# EAGLE library part ADS1112 (library TI)
16-bit Analog-to-Digital Converter with Input Multiplexer and Onboard Reference. 2-channel differential or 3-channel single ended.
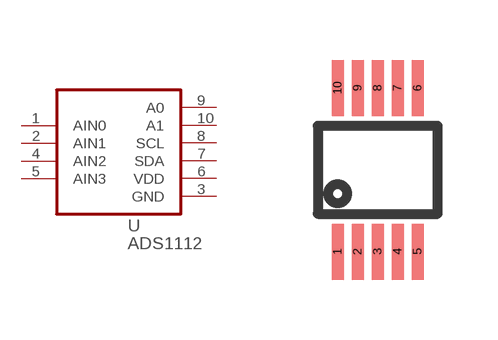
[diagram p17: symbol with the pads of MSOP10; footprint MSOP10]

Designator prefix -

## ADS1112  [MSOP10]
1  AIN0
2  AIN1
3  GND
4  AIN2
5  AIN3
6  VDD
7  SDA
8  SCL
9  A0
10  A1

## Footprint MSOP10 (pad centres in mm)
MSOP 10 package, 0.5mm pitch
smd 0.3 x 1.4: 1 -1,-2.05; 2 -0.5,-2.05; 3 0,-2.05; 4 0.5,-2.05; 5 1,-2.05; 6 1,2.05; 7 0.5,2.05; 8 0,2.05; 9 -0.5,2.05; 10 -1,2.05